# EAGLE library part RES-ARRAY- (library Cynara-Passives)
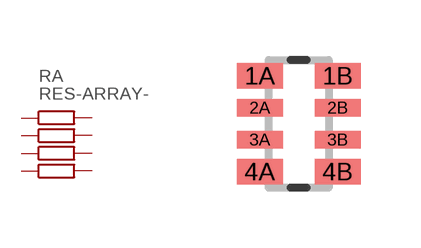
[diagram p0: symbol with the pads of CRA06S; footprint CRA06S]

Designator prefix RA

## RES-ARRAY-0E-4X (VALUE: 0E), RES-ARRAY-100E-4X (VALUE: 100E)  [CRA06S]
1A  1A  pas
1B  1B  pas
2A  2A  pas
2B  2B  pas
3A  3A  pas
3B  3B  pas
4A  4A  pas
4B  4B  pas

## Footprint CRA06S (pad centres in mm)
smd 1.15 x 0.63: 1A -0.975,1.2; 1B 0.975,1.2; 4A -0.975,-1.2; 4B 0.975,-1.2
smd 1.15 x 0.44: 2A -0.975,0.4; 2B 0.975,0.4; 3A -0.975,-0.4; 3B 0.975,-0.4